# Altium integrated library W25Q80DVSSIG.IntLib: 1 symbol
Pins are listed as number, name and electrical type; pins without a type are passive.

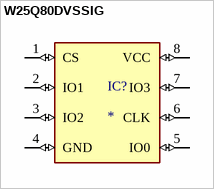
[diagram p0: symbol W25Q80DVSSIG]

## W25Q80DVSSIG
designator IC?
FLASH - NOR Memory IC 8Mb (1M x 8) SPI - Quad I/O 104 MHz 8-SOIC; MP: W25Q80DVSSIG; MF: Winbond Electronics; Availability: In Stock; SnapEDA_Link: https://www.snapeda.com/parts/W25Q80DVSSIG/Winbond+Electronics/view-part/?ref=snap; Price: None; Purchase-URL: https://pricing.snapeda.com/search/part/W25Q80DVSSIG/?ref=eda; Value: *; Check_prices: https://www.snapeda.com/parts/W25Q80DVSSIG/Winbond+Electronics/view-part/?ref=eda; Package: None
footprint SOIC8-FLASH
pins: 1 CS (io), 2 IO1 (io), 3 IO2 (io), 4 GND (io), 5 IO0 (io), 6 CLK (io), 7 IO3 (io), 8 VCC (io)